# EAGLE library part MINI-USBHOSTSHIELD (library miniUSBHostShield)
mini usb host shield
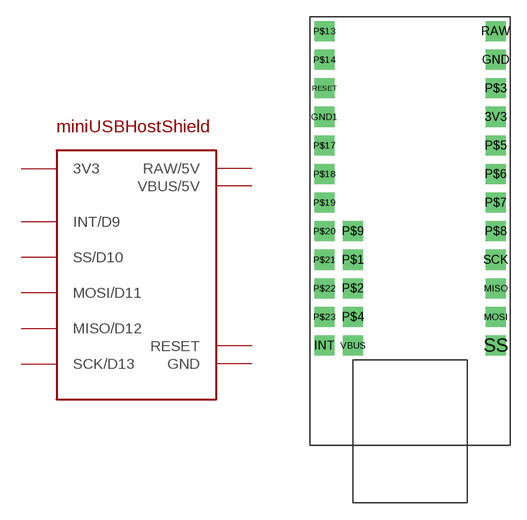
[diagram p0: symbol with the pads of USBMINI; footprint USBMINI]

Designator prefix -

## MINI-USBHOSTSHIELD  [USBMINI]
3V3  3V3
GND  GND
GND1  GND
INT  INT/D9
MISO  MISO/D12
MOSI  MOSI/D11
RAW  RAW/5V
RESET  RESET
SCK  SCK/D13
SS  SS/D10
VBUS  VBUS/5V

## Footprint USBMINI (pad centres in mm)
drill 0.8 pad 1.778 square: 3V3 0,-7.62; GND 0,-2.54; GND1 -15.24,-7.62; INT -15.24,-27.94; MISO 0,-22.86; MOSI 0,-25.4; P$1 -12.7,-20.32; P$2 -12.7,-22.86; P$3 0,-5.08; P$4 -12.7,-25.4; P$5 0,-10.16; P$6 0,-12.7; P$7 0,-15.24; P$8 0,-17.78; P$9 -12.7,-17.78; P$13 -15.24,0; P$14 -15.24,-2.54; P$17 -15.24,-10.16; P$18 -15.24,-12.7; P$19 -15.24,-15.24; P$20 -15.24,-17.78; P$21 -15.24,-20.32; P$22 -15.24,-22.86; P$23 -15.24,-25.4; RAW 0,0; RESET -15.24,-5.08; SCK 0,-20.32; SS 0,-27.94; VBUS -12.7,-27.94